# Altium schematic symbol library KF301-3P.SchLib: 1 symbol
Pins are listed as number, name and electrical type; pins without a type are passive.

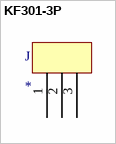
[diagram p0: symbol KF301-3P]

## KF301-3P
designator J  (no BOM)
pins: 1, 2, 3